# Altium footprint library LED_THT.PcbLib: 82 footprints (part 1 of 6)
Each footprint in its own frame and in the unit in brackets; x right, y up, seen from the top. Pads: shape width x height; smd on the part's side, far side on the other; paste and mask are expansions set on the pad; w line width, h text height; cw(c..) or ccw(c..) is an arc to the next point about the centre after c.
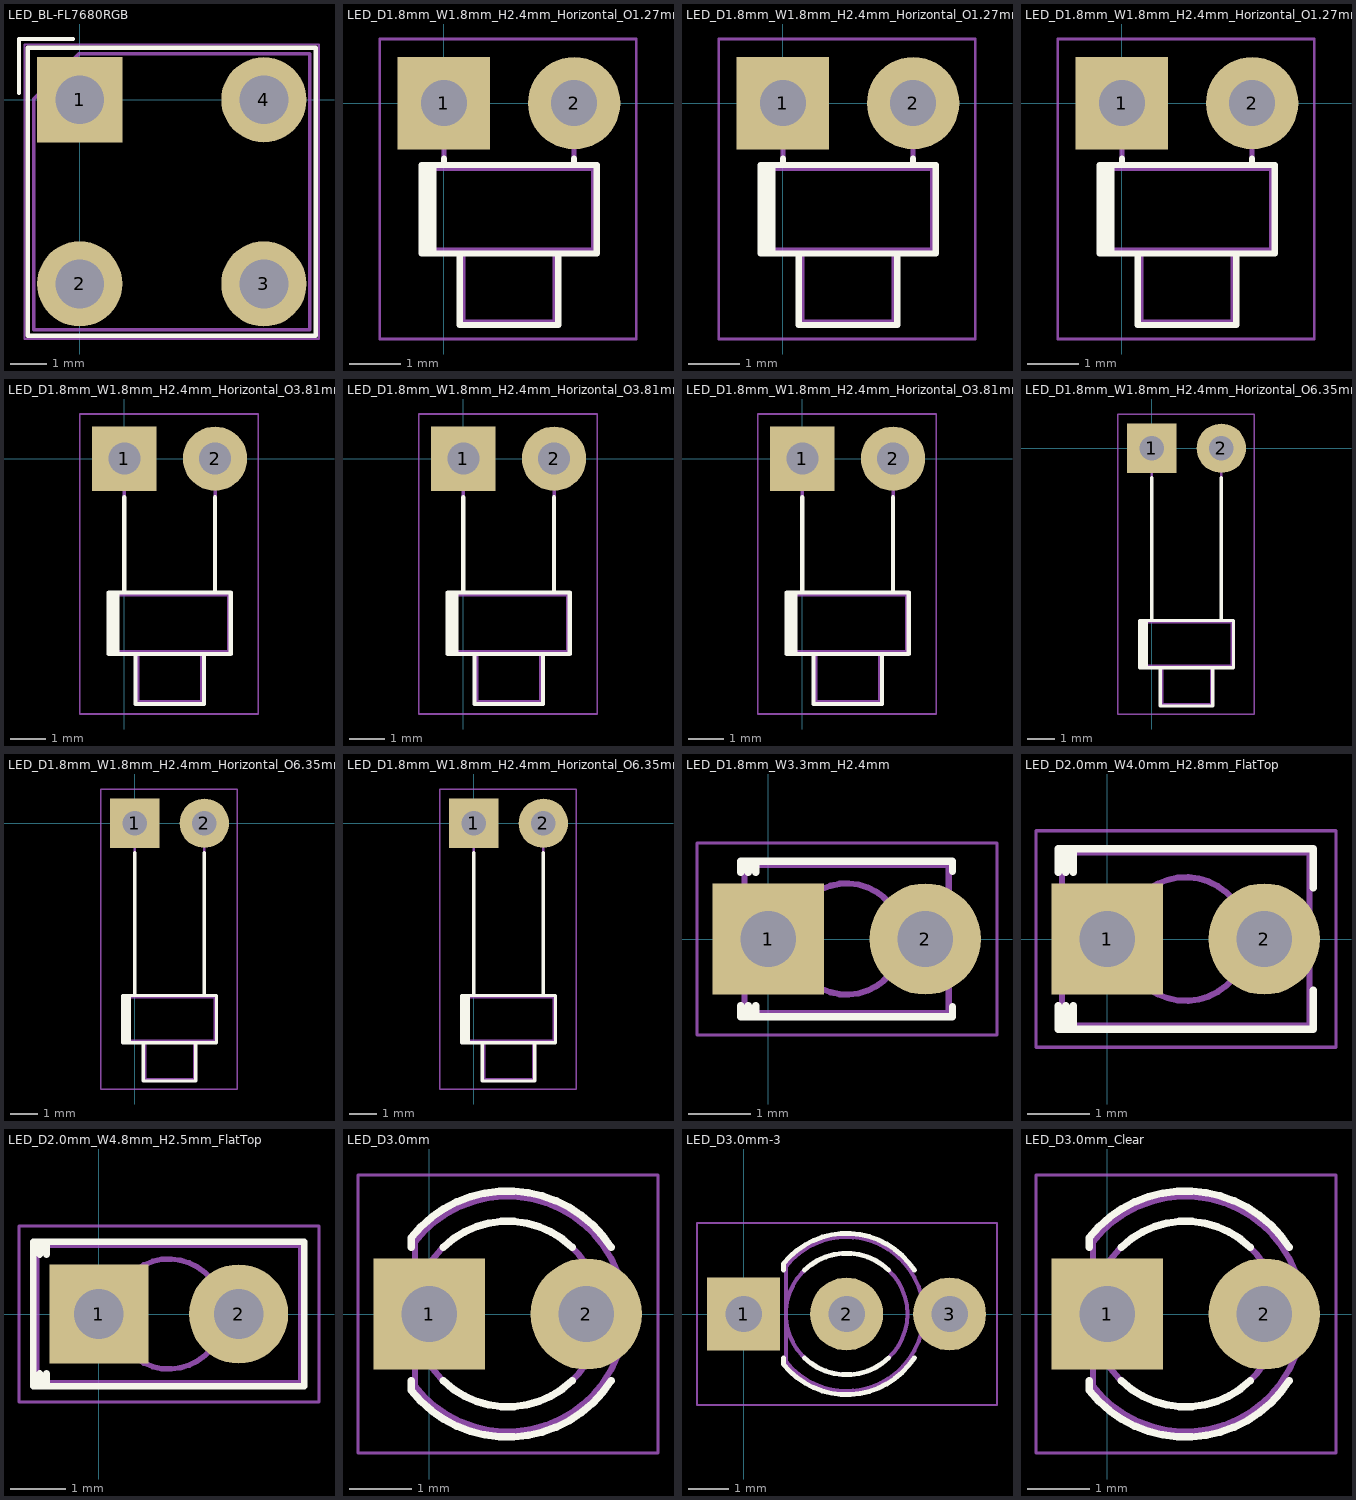
[diagram p0: the footprints below, top view; thin cyan lines are the x and y axes]

## LED_BL-FL7680RGB [mm]
pads (4):
  rect 2.35x2.35 hole 1.35: 1(0,0)
  round 2.35 hole 1.35: 2(0,-5.08) 3(5.08,-5.08) 4(5.08,0)
F.SilkS:
  lines w0.12: -1.675,0.185 -1.675,1.675 -0.185,1.675 ; -1.435,-6.515 -1.435,1.435 6.515,1.435 6.515,-6.515 -1.435,-6.515
F.CrtYd:
  lines w0.05: -1.52,-6.6 6.6,-6.6 6.6,1.52 -1.52,1.52 -1.52,-6.6
F.Fab:
  lines w0.1: -1.27,-6.35 6.35,-6.35 6.35,1.27 -0.02,1.27 -1.27,0.02 -1.27,-6.35
  text "'.Designator'" at -1.507,-3.38 h1

## LED_D1.8mm_W1.8mm_H2.4mm_Horizontal_O1.27mm_Z1.6mm [mm]
pads (2):
  rect 1.8x1.8 hole 0.9: 1(0,0)
  round 1.8 hole 0.9: 2(2.54,0)
F.SilkS:
  lines w0.12: -0.32,-2.93 -0.32,-1.21 ; -0.2,-2.93 -0.2,-1.21 ; -0.44,-2.93 2.98,-2.93 2.98,-1.21 -0.44,-1.21 -0.44,-2.93 ; 0,-1.21 0,-1.08 0,-1.21 ; 0.31,-4.33 0.31,-2.93 2.23,-2.93 2.23,-4.33 0.31,-4.33 ; 2.54,-1.21 2.54,-1.08 2.54,-1.21
F.CrtYd:
  lines w0.05: -1.25,-4.6 -1.25,1.25 3.75,1.25 3.75,-4.6 -1.25,-4.6
F.Fab:
  lines w0.1: -0.38,-2.87 2.92,-2.87 2.92,-1.27 -0.38,-1.27 -0.38,-2.87 ; 0,-1.27 0,0 0,-1.27 ; 0.37,-4.27 0.37,-2.87 2.17,-2.87 2.17,-4.27 0.37,-4.27 ; 2.54,-1.27 2.54,0 2.54,-1.27

## LED_D1.8mm_W1.8mm_H2.4mm_Horizontal_O1.27mm_Z4.9mm [mm]
pads (2):
  rect 1.8x1.8 hole 0.9: 1(0,0)
  round 1.8 hole 0.9: 2(2.54,0)
F.SilkS:
  lines w0.12: -0.32,-2.93 -0.32,-1.21 ; -0.2,-2.93 -0.2,-1.21 ; -0.44,-2.93 -0.44,-1.21 2.98,-1.21 2.98,-2.93 -0.44,-2.93 ; 0,-1.21 0,-1.08 0,-1.21 ; 0.31,-4.33 2.23,-4.33 2.23,-2.93 0.31,-2.93 0.31,-4.33 ; 2.54,-1.21 2.54,-1.08 2.54,-1.21
F.CrtYd:
  lines w0.05: -1.25,-4.6 -1.25,1.25 3.75,1.25 3.75,-4.6 -1.25,-4.6
F.Fab:
  lines w0.1: -0.38,-2.87 2.92,-2.87 2.92,-1.27 -0.38,-1.27 -0.38,-2.87 ; 0,-1.27 0,0 0,-1.27 ; 0.37,-4.27 0.37,-2.87 2.17,-2.87 2.17,-4.27 0.37,-4.27 ; 2.54,-1.27 2.54,0 2.54,-1.27

## LED_D1.8mm_W1.8mm_H2.4mm_Horizontal_O1.27mm_Z8.2mm [mm]
pads (2):
  rect 1.8x1.8 hole 0.9: 1(0,0)
  round 1.8 hole 0.9: 2(2.54,0)
F.SilkS:
  lines w0.12: -0.32,-2.93 -0.32,-1.21 ; -0.2,-2.93 -0.2,-1.21 ; -0.44,-2.93 -0.44,-1.21 2.98,-1.21 2.98,-2.93 -0.44,-2.93 ; 0,-1.21 0,-1.08 0,-1.21 ; 0.31,-4.33 2.23,-4.33 2.23,-2.93 0.31,-2.93 0.31,-4.33 ; 2.54,-1.21 2.54,-1.08 2.54,-1.21
F.CrtYd:
  lines w0.05: -1.25,-4.6 -1.25,1.25 3.75,1.25 3.75,-4.6 -1.25,-4.6
F.Fab:
  lines w0.1: -0.38,-2.87 2.92,-2.87 2.92,-1.27 -0.38,-1.27 -0.38,-2.87 ; 0,-1.27 0,0 0,-1.27 ; 0.37,-4.27 2.17,-4.27 2.17,-2.87 0.37,-2.87 0.37,-4.27 ; 2.54,-1.27 2.54,0 2.54,-1.27

## LED_D1.8mm_W1.8mm_H2.4mm_Horizontal_O3.81mm_Z1.6mm [mm]
pads (2):
  rect 1.8x1.8 hole 0.9: 1(0,0)
  round 1.8 hole 0.9: 2(2.54,0)
F.SilkS:
  lines w0.12: -0.32,-5.47 -0.32,-3.75 ; -0.2,-5.47 -0.2,-3.75 ; -0.44,-5.47 -0.44,-3.75 2.98,-3.75 2.98,-5.47 -0.44,-5.47 ; 0,-3.75 0,-1.08 0,-3.75 ; 0.31,-6.87 2.23,-6.87 2.23,-5.47 0.31,-5.47 0.31,-6.87 ; 2.54,-3.75 2.54,-1.08 2.54,-3.75
F.CrtYd:
  lines w0.05: -1.25,-7.15 -1.25,1.25 3.75,1.25 3.75,-7.15 -1.25,-7.15
F.Fab:
  lines w0.1: -0.38,-5.41 2.92,-5.41 2.92,-3.81 -0.38,-3.81 -0.38,-5.41 ; 0,-3.81 0,0 0,-3.81 ; 0.37,-6.81 0.37,-5.41 2.17,-5.41 2.17,-6.81 0.37,-6.81 ; 2.54,-3.81 2.54,0 2.54,-3.81

## LED_D1.8mm_W1.8mm_H2.4mm_Horizontal_O3.81mm_Z4.9mm [mm]
pads (2):
  rect 1.8x1.8 hole 0.9: 1(0,0)
  round 1.8 hole 0.9: 2(2.54,0)
F.SilkS:
  lines w0.12: -0.32,-5.47 -0.32,-3.75 ; -0.2,-5.47 -0.2,-3.75 ; -0.44,-5.47 -0.44,-3.75 2.98,-3.75 2.98,-5.47 -0.44,-5.47 ; 0,-3.75 0,-1.08 0,-3.75 ; 0.31,-6.87 2.23,-6.87 2.23,-5.47 0.31,-5.47 0.31,-6.87 ; 2.54,-3.75 2.54,-1.08 2.54,-3.75
F.CrtYd:
  lines w0.05: -1.25,-7.15 -1.25,1.25 3.75,1.25 3.75,-7.15 -1.25,-7.15
F.Fab:
  lines w0.1: -0.38,-5.41 2.92,-5.41 2.92,-3.81 -0.38,-3.81 -0.38,-5.41 ; 0,-3.81 0,0 0,-3.81 ; 0.37,-6.81 0.37,-5.41 2.17,-5.41 2.17,-6.81 0.37,-6.81 ; 2.54,-3.81 2.54,0 2.54,-3.81

## LED_D1.8mm_W1.8mm_H2.4mm_Horizontal_O3.81mm_Z8.2mm [mm]
pads (2):
  rect 1.8x1.8 hole 0.9: 1(0,0)
  round 1.8 hole 0.9: 2(2.54,0)
F.SilkS:
  lines w0.12: -0.32,-5.47 -0.32,-3.75 ; -0.2,-5.47 -0.2,-3.75 ; -0.44,-5.47 -0.44,-3.75 2.98,-3.75 2.98,-5.47 -0.44,-5.47 ; 0,-3.75 0,-1.08 0,-3.75 ; 0.31,-6.87 0.31,-5.47 2.23,-5.47 2.23,-6.87 0.31,-6.87 ; 2.54,-3.75 2.54,-1.08 2.54,-3.75
F.CrtYd:
  lines w0.05: -1.25,-7.15 -1.25,1.25 3.75,1.25 3.75,-7.15 -1.25,-7.15
F.Fab:
  lines w0.1: -0.38,-5.41 2.92,-5.41 2.92,-3.81 -0.38,-3.81 -0.38,-5.41 ; 0,-3.81 0,0 0,-3.81 ; 0.37,-6.81 2.17,-6.81 2.17,-5.41 0.37,-5.41 0.37,-6.81 ; 2.54,-3.81 2.54,0 2.54,-3.81

## LED_D1.8mm_W1.8mm_H2.4mm_Horizontal_O6.35mm_Z1.6mm [mm]
pads (2):
  rect 1.8x1.8 hole 0.9: 1(0,0)
  round 1.8 hole 0.9: 2(2.54,0)
F.SilkS:
  lines w0.12: -0.32,-8.01 -0.32,-6.29 ; -0.2,-8.01 -0.2,-6.29 ; -0.44,-8.01 -0.44,-6.29 2.98,-6.29 2.98,-8.01 -0.44,-8.01 ; 0,-6.29 0,-1.08 0,-6.29 ; 0.31,-9.41 0.31,-8.01 2.23,-8.01 2.23,-9.41 0.31,-9.41 ; 2.54,-6.29 2.54,-1.08 2.54,-6.29
F.CrtYd:
  lines w0.05: -1.25,-9.7 -1.25,1.25 3.75,1.25 3.75,-9.7 -1.25,-9.7
F.Fab:
  lines w0.1: -0.38,-7.95 2.92,-7.95 2.92,-6.35 -0.38,-6.35 -0.38,-7.95 ; 0,-6.35 0,0 0,-6.35 ; 0.37,-9.35 2.17,-9.35 2.17,-7.95 0.37,-7.95 0.37,-9.35 ; 2.54,-6.35 2.54,0 2.54,-6.35

## LED_D1.8mm_W1.8mm_H2.4mm_Horizontal_O6.35mm_Z4.9mm [mm]
pads (2):
  rect 1.8x1.8 hole 0.9: 1(0,0)
  round 1.8 hole 0.9: 2(2.54,0)
F.SilkS:
  lines w0.12: -0.32,-8.01 -0.32,-6.29 ; -0.2,-8.01 -0.2,-6.29 ; -0.44,-8.01 -0.44,-6.29 2.98,-6.29 2.98,-8.01 -0.44,-8.01 ; 0,-6.29 0,-1.08 0,-6.29 ; 0.31,-9.41 2.23,-9.41 2.23,-8.01 0.31,-8.01 0.31,-9.41 ; 2.54,-6.29 2.54,-1.08 2.54,-6.29
F.CrtYd:
  lines w0.05: -1.25,-9.7 -1.25,1.25 3.75,1.25 3.75,-9.7 -1.25,-9.7
F.Fab:
  lines w0.1: -0.38,-7.95 2.92,-7.95 2.92,-6.35 -0.38,-6.35 -0.38,-7.95 ; 0,-6.35 0,0 0,-6.35 ; 0.37,-9.35 0.37,-7.95 2.17,-7.95 2.17,-9.35 0.37,-9.35 ; 2.54,-6.35 2.54,0 2.54,-6.35

## LED_D1.8mm_W1.8mm_H2.4mm_Horizontal_O6.35mm_Z8.2mm [mm]
pads (2):
  rect 1.8x1.8 hole 0.9: 1(0,0)
  round 1.8 hole 0.9: 2(2.54,0)
F.SilkS:
  lines w0.12: -0.32,-8.01 -0.32,-6.29 ; -0.2,-8.01 -0.2,-6.29 ; -0.44,-8.01 -0.44,-6.29 2.98,-6.29 2.98,-8.01 -0.44,-8.01 ; 0,-6.29 0,-1.08 0,-6.29 ; 0.31,-9.41 2.23,-9.41 2.23,-8.01 0.31,-8.01 0.31,-9.41 ; 2.54,-6.29 2.54,-1.08 2.54,-6.29
F.CrtYd:
  lines w0.05: -1.25,-9.7 3.75,-9.7 3.75,1.25 -1.25,1.25 -1.25,-9.7
F.Fab:
  lines w0.1: -0.38,-7.95 -0.38,-6.35 2.92,-6.35 2.92,-7.95 -0.38,-7.95 ; 0,-6.35 0,0 0,-6.35 ; 0.37,-9.35 2.17,-9.35 2.17,-7.95 0.37,-7.95 0.37,-9.35 ; 2.54,-6.35 2.54,0 2.54,-6.35

## LED_D1.8mm_W3.3mm_H2.4mm [mm]
pads (2):
  rect 1.8x1.8 hole 0.9: 1(0,0)
  round 1.8 hole 0.9: 2(2.54,0)
F.SilkS:
  lines w0.12: -0.44,-1.08 -0.44,-1.26 2.98,-1.26 2.98,-1.095 ; -0.44,1.08 -0.44,1.26 2.98,1.26 2.98,1.095 ; -0.32,-1.26 -0.32,-1.08 ; -0.32,1.08 -0.32,1.26 ; -0.2,-1.26 -0.2,-1.08 ; -0.2,1.08 -0.2,1.26
F.CrtYd:
  lines w0.05: -1.15,-1.55 3.7,-1.55 3.7,1.55 -1.15,1.55 -1.15,-1.55
F.Fab:
  circle w0.1: c1.27,0 r0.9
  lines w0.1: -0.38,-1.2 2.92,-1.2 2.92,1.2 -0.38,1.2 -0.38,-1.2

## LED_D2.0mm_W4.0mm_H2.8mm_FlatTop [mm]
pads (2):
  rect 1.8x1.8 hole 0.9: 1(0,0)
  round 1.8 hole 0.9: 2(2.54,0)
F.SilkS:
  lines w0.12: -0.79,-1.08 -0.79,-1.46 3.33,-1.46 3.33,-0.825 ; -0.79,1.08 -0.79,1.46 3.33,1.46 3.33,0.825 ; -0.67,-1.46 -0.67,-1.08 ; -0.67,1.08 -0.67,1.46 ; -0.55,-1.46 -0.55,-1.08 ; -0.55,1.08 -0.55,1.46
F.CrtYd:
  lines w0.05: -1.15,-1.75 -1.15,1.75 3.7,1.75 3.7,-1.75 -1.15,-1.75
F.Fab:
  circle w0.1: c1.27,0 r1
  lines w0.1: -0.73,-1.4 -0.73,1.4 3.27,1.4 3.27,-1.4 -0.73,-1.4

## LED_D2.0mm_W4.8mm_H2.5mm_FlatTop [mm]
pads (2):
  rect 1.8x1.8 hole 0.9: 1(0,0)
  round 1.8 hole 0.9: 2(2.54,0)
F.SilkS:
  lines w0.12: -1.07,-1.31 -1.07,-1.08 ; -1.07,1.08 -1.07,1.31 ; -0.95,-1.31 -0.95,-1.08 ; -0.95,1.08 -0.95,1.31 ; -1.19,-1.31 -1.19,1.31 3.73,1.31 3.73,-1.31 -1.19,-1.31
F.CrtYd:
  lines w0.05: -1.45,-1.6 -1.45,1.6 4,1.6 4,-1.6 -1.45,-1.6
F.Fab:
  circle w0.1: c1.27,0 r1
  lines w0.1: -1.13,-1.25 3.67,-1.25 3.67,1.25 -1.13,1.25 -1.13,-1.25

## LED_D3.0mm [mm]
pads (2):
  rect 1.8x1.8 hole 0.9: 1(0,0)
  round 1.8 hole 0.9: 2(2.54,0)
F.SilkS:
  lines w0.12: -0.29,-1.08 -0.29,-1.236 ccw(c1.27,0) 2.942,-1.079 ; -0.29,1.08 -0.29,1.236 cw(c1.27,0) 2.942,1.079 ; 0.229,-1.08 ccw(c1.27,0) 2.311,-1.08 ; 0.229,1.08 cw(c1.27,0) 2.311,1.08
F.CrtYd:
  lines w0.05: -1.15,-2.25 3.7,-2.25 3.7,2.25 -1.15,2.25 -1.15,-2.25
F.Fab:
  circle w0.1: c1.27,0 r1.5
  lines w0.1: -0.231,-1.165 ccw(c1.27,0) -0.23,1.166 -0.23,-1.166

## LED_D3.0mm-3 [mm]
pads (3):
  rect 1.8x1.8 hole 0.9: 1(0,0)
  round 1.8 hole 0.9: 2(2.54,0) 3(5.08,0)
F.SilkS:
  lines w0.12: 0.98,-1.08 0.98,-1.236 ccw(c2.54,0) 4.212,-1.079 ; 0.98,1.08 0.98,1.236 cw(c2.54,0) 4.212,1.079 ; 1.499,-1.08 ccw(c2.54,0) 3.581,-1.08 ; 1.499,1.08 cw(c2.54,0) 3.581,1.08
F.CrtYd:
  lines w0.05: -1.15,-2.25 -1.15,2.25 6.25,2.25 6.25,-2.25 -1.15,-2.25
F.Fab:
  circle w0.1: c2.54,0 r1.5
  lines w0.1: 1.039,-1.165 ccw(c2.54,0) 1.04,1.166 1.04,-1.166

## LED_D3.0mm_Clear [mm]
pads (2):
  rect 1.8x1.8 hole 0.9: 1(0,0)
  round 1.8 hole 0.9: 2(2.54,0)
F.SilkS:
  lines w0.12: -0.29,-1.08 -0.29,-1.236 ccw(c1.27,0) 2.942,-1.079 ; -0.29,1.08 -0.29,1.236 cw(c1.27,0) 2.942,1.079 ; 0.229,-1.08 ccw(c1.27,0) 2.311,-1.08 ; 0.229,1.08 cw(c1.27,0) 2.311,1.08
F.CrtYd:
  lines w0.05: -1.15,-2.25 3.7,-2.25 3.7,2.25 -1.15,2.25 -1.15,-2.25
F.Fab:
  circle w0.1: c1.27,0 r1.5
  lines w0.1: -0.231,-1.165 ccw(c1.27,0) -0.23,1.166 -0.23,-1.166
  text "'.Designator'" at -1.767,-0.672 h0.8